# Altium integrated library Zilog Peripheral Multifunction Controller.IntLib: 18 symbols
Pins are listed as number, name and electrical type; pins without a type are passive.

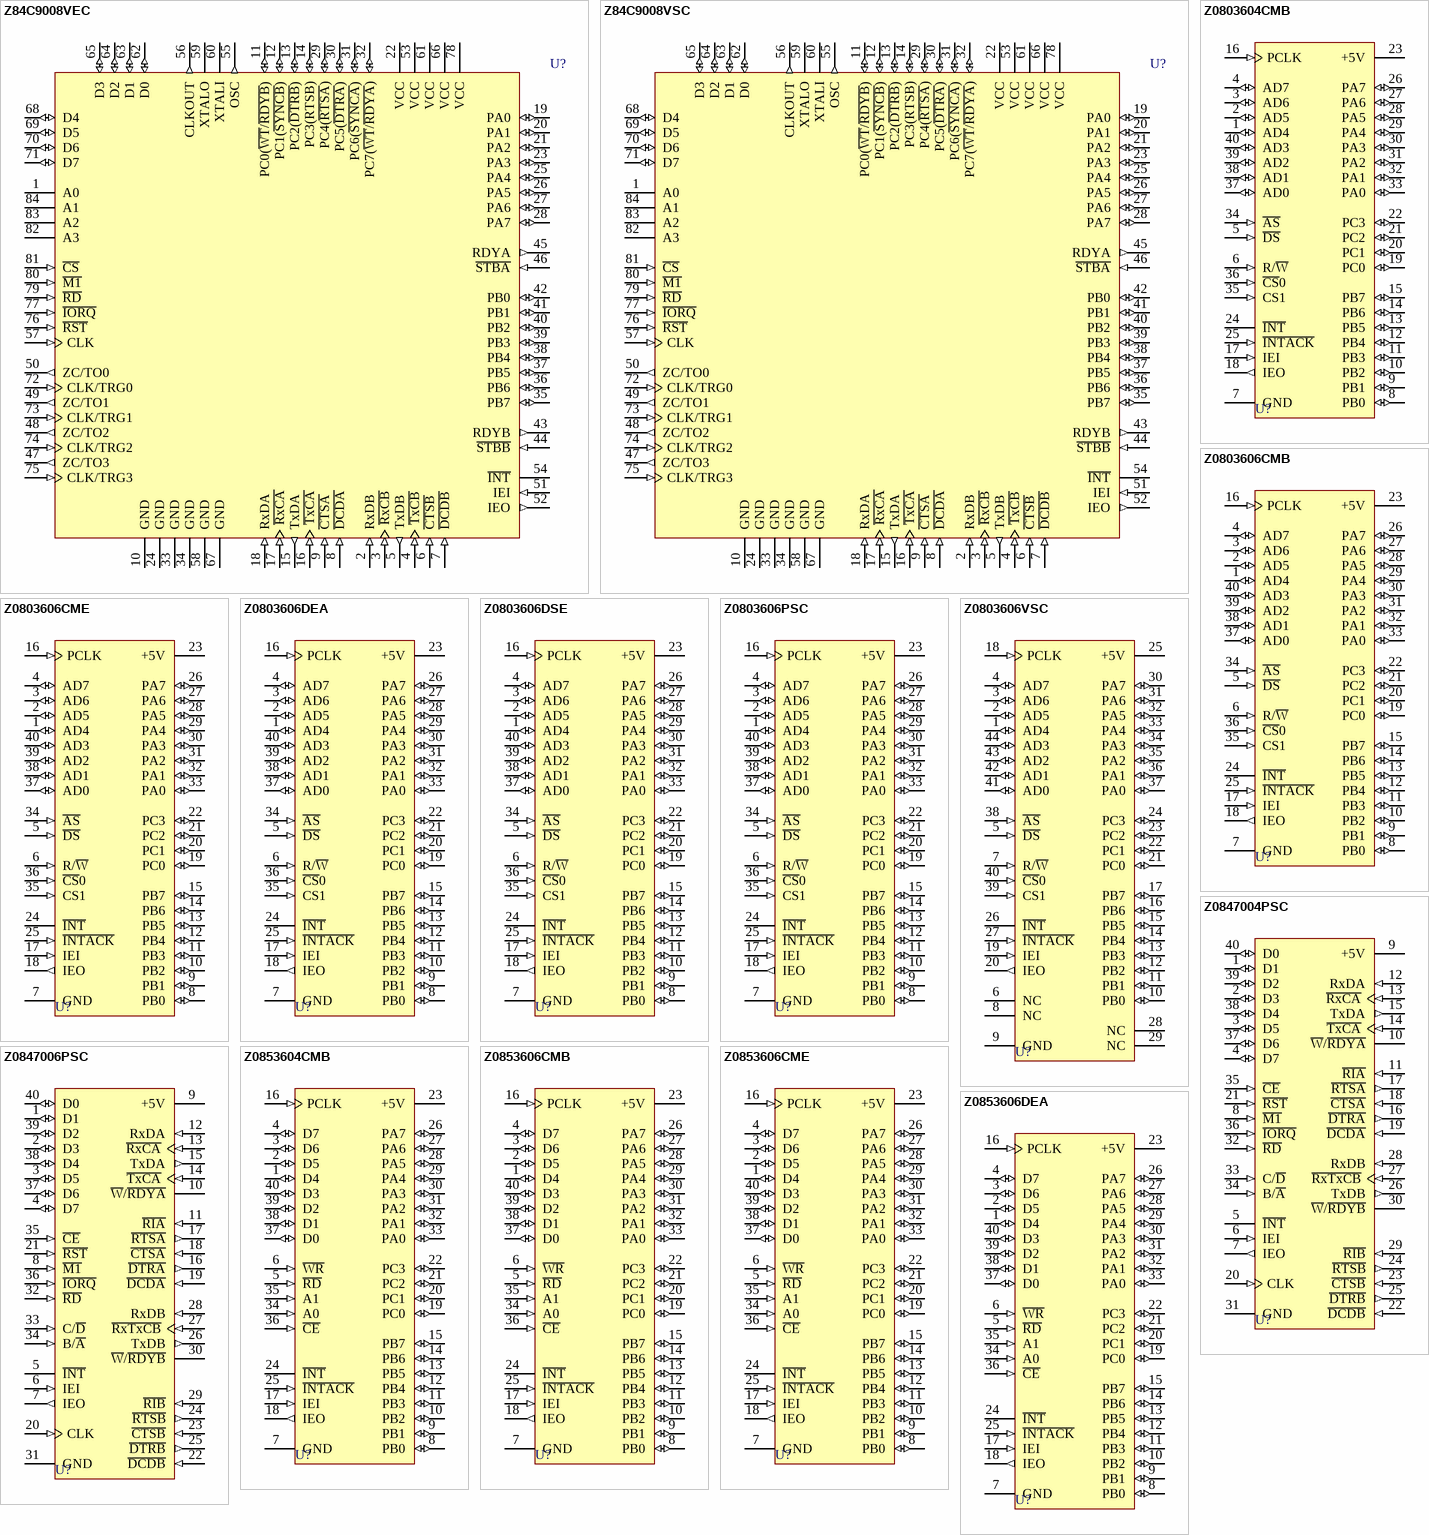
[diagram p0: symbols Z84C9008VEC to Z0853606DEA]

## Z84C9008VEC
designator U?
CMOS Serial/Parallel/Counter/Timer; Published: 15-Apr-2002; LatestRevisionDate: 13-Apr-2006; LatestRevisionNote: IPC-7351 Footprint Added.; DatasheetVersion: Jan-1989; PackageReference: PLCC84; Publisher: Altium Limited; PackageDescription: 84-Pin Leaded Chip Carrier 1.27 mm Pitch; Code_IPC: PLCC-84; ComponentLink1Description: Manufacturer Link; ComponentLink1URL: http://www.zilog.com/; ComponentLink2Description: Datasheet; ComponentLink2URL: http://www.zilog.com/docs/z80/um0081.pdf
footprint PLCC84_N (Leaded Chip Carrier, 84-Leads, Body 29.3x29.3mm, Pitch 1.27mm, IPC Medium Density)
footprint PLCC84_L (Leaded Chip Carrier, 84-Leads, Body 29.3x29.3mm, Pitch 1.27mm, IPC High Density)
footprint PLCC84_M (Leaded Chip Carrier, 84-Leads, Body 29.3x29.3mm, Pitch 1.27mm, IPC Low Density)
3D model Z84C90-PLCC84 (84-Pin Leaded Chip Carrier 1.27 mm Pitch)
pins: 1 A0 (hiz), 2 RxDB (in), 3 ~{RxCB} (in), 4 ~{TxCB} (in), 5 TxDB (out), 6 ~{CTSB} (in), 7 ~{DCDB} (in), 8 ~{DCDA} (in), 9 ~{CTSA} (in), 10 GND (power), 11 PC0(~{WT}/~{RDYB}) (io), 12 PC1(~{SYNCB}) (io), 13 PC2(~{DTRB}) (io), 14 PC3(RTSB) (io), 15 TxDA (out), 16 ~{TxCA} (in), 17 ~{RxCA} (in), 18 RxDA (in), 19 PA0 (io), 20 PA1 (io), 21 PA2 (io), 22 VCC (power), 23 PA3 (io), 24 GND (power), 25 PA4 (io), 26 PA5 (io), 27 PA6 (io), 28 PA7 (io), 29 PC4(~{RTSA}) (io), 30 PC5(~{DTRA}) (io), 31 PC6(~{SYNCA}) (io), 32 PC7(~{WT}/~{RDYA}) (io), 33 GND (power), 34 GND (power), 35 PB7 (io), 36 PB6 (io), 37 PB5 (io), 38 PB4 (io), 39 PB3 (io), 40 PB2 (io), 41 PB1 (io), 42 PB0 (io), 43 RDYB (out), 44 ~{STBB} (in), 45 RDYA (out), 46 ~{STBA} (in), 47 ZC/TO3 (out), 48 ZC/TO2 (out), 49 ZC/TO1 (out), 50 ZC/TO0 (out), 51 IEI (in), 52 IEO (out), 53 VCC (power), 54 ~{INT} (oc), 55 OSC (out), 56 CLKOUT (out), 57 CLK (in), 58 GND (power), 59 XTALO, 60 XTALI, 61 VCC (power), 62 D0 (io), 63 D1 (io), 64 D2 (io), 65 D3 (io), 66 VCC (power), 67 GND (power), 68 D4 (io), 69 D5 (io), 70 D6 (io), 71 D7 (io), 72 CLK/TRG0 (in), 73 CLK/TRG1 (in), 74 CLK/TRG2 (in), 75 CLK/TRG3 (in), 76 ~{RST} (in), 77 ~{IORQ} (in), 78 VCC (power), 79 ~{RD} (in), 80 ~{M1} (in), 81 ~{CS} (in), 82 A3 (hiz), 83 A2 (hiz), 84 A1 (hiz)

## Z84C9008VSC
designator U?
CMOS Serial/Parallel/Counter/Timer; Published: 15-Apr-2002; LatestRevisionDate: 13-Apr-2006; LatestRevisionNote: IPC-7351 Footprint Added.; DatasheetVersion: Jan-1989; PackageReference: PLCC84; Publisher: Altium Limited; PackageDescription: 84-Pin Leaded Chip Carrier 1.27 mm Pitch; Code_IPC: PLCC-84; ComponentLink1Description: Manufacturer Link; ComponentLink1URL: http://www.zilog.com/; ComponentLink2Description: Datasheet; ComponentLink2URL: http://www.zilog.com/docs/z80/um0081.pdf
footprint PLCC84_N (Leaded Chip Carrier, 84-Leads, Body 29.3x29.3mm, Pitch 1.27mm, IPC Medium Density)
footprint PLCC84_L (Leaded Chip Carrier, 84-Leads, Body 29.3x29.3mm, Pitch 1.27mm, IPC High Density)
footprint PLCC84_M (Leaded Chip Carrier, 84-Leads, Body 29.3x29.3mm, Pitch 1.27mm, IPC Low Density)
3D model Z84C90-PLCC84 (84-Pin Leaded Chip Carrier 1.27 mm Pitch)
pins: 1 A0 (hiz), 2 RxDB (in), 3 ~{RxCB} (in), 4 ~{TxCB} (in), 5 TxDB (out), 6 ~{CTSB} (in), 7 ~{DCDB} (in), 8 ~{DCDA} (in), 9 ~{CTSA} (in), 10 GND (power), 11 PC0(~{WT}/~{RDYB}) (io), 12 PC1(~{SYNCB}) (io), 13 PC2(~{DTRB}) (io), 14 PC3(RTSB) (io), 15 TxDA (out), 16 ~{TxCA} (in), 17 ~{RxCA} (in), 18 RxDA (in), 19 PA0 (io), 20 PA1 (io), 21 PA2 (io), 22 VCC (power), 23 PA3 (io), 24 GND (power), 25 PA4 (io), 26 PA5 (io), 27 PA6 (io), 28 PA7 (io), 29 PC4(~{RTSA}) (io), 30 PC5(~{DTRA}) (io), 31 PC6(~{SYNCA}) (io), 32 PC7(~{WT}/~{RDYA}) (io), 33 GND (power), 34 GND (power), 35 PB7 (io), 36 PB6 (io), 37 PB5 (io), 38 PB4 (io), 39 PB3 (io), 40 PB2 (io), 41 PB1 (io), 42 PB0 (io), 43 RDYB (out), 44 ~{STBB} (in), 45 RDYA (out), 46 ~{STBA} (in), 47 ZC/TO3 (out), 48 ZC/TO2 (out), 49 ZC/TO1 (out), 50 ZC/TO0 (out), 51 IEI (in), 52 IEO (out), 53 VCC (power), 54 ~{INT} (oc), 55 OSC (out), 56 CLKOUT (out), 57 CLK (in), 58 GND (power), 59 XTALO, 60 XTALI, 61 VCC (power), 62 D0 (io), 63 D1 (io), 64 D2 (io), 65 D3 (io), 66 VCC (power), 67 GND (power), 68 D4 (io), 69 D5 (io), 70 D6 (io), 71 D7 (io), 72 CLK/TRG0 (in), 73 CLK/TRG1 (in), 74 CLK/TRG2 (in), 75 CLK/TRG3 (in), 76 ~{RST} (in), 77 ~{IORQ} (in), 78 VCC (power), 79 ~{RD} (in), 80 ~{M1} (in), 81 ~{CS} (in), 82 A3 (hiz), 83 A2 (hiz), 84 A1 (hiz)

## Z0803604CMB
designator U?
Counter/Timer and Parallel I/O Unit; Published: 15-Apr-2002; LatestRevisionDate: 04-Mar-2005; LatestRevisionNote: Stylized 3D Model Added.; DatasheetVersion: Oct-1988; PackageVersion: 2001; PackageReference: CDIP40; Publisher: Altium Limited; PackageDescription: DIP; 40 Leads; Row Spacing 15.24 mm; Pitch 2.54 mm; ComponentLink1Description: Manufacturer Link; ComponentLink1URL: http://www.zilog.com/
footprint CDIP40 (DIP; 40 Leads; Row Spacing 15.24 mm; Pitch 2.54 mm)
3D model CDIP40 (DIP; 40 Leads; Row Spacing 15.24 mm; Pitch 2.54 mm)
pins: 1 AD4 (io), 2 AD5 (io), 3 AD6 (io), 4 AD7 (io), 5 ~{DS} (in), 6 R/~{W} (in), 7 GND (power), 8 PB0 (io), 9 PB1 (io), 10 PB2 (io), 11 PB3 (io), 12 PB4 (io), 13 PB5 (io), 14 PB6 (io), 15 PB7 (io), 16 PCLK (in), 17 IEI (in), 18 IEO (out), 19 PC0 (io), 20 PC1 (io), 21 PC2 (io), 22 PC3 (io), 23 +5V (power), 24 ~{INT} (oc), 25 ~{INTACK} (in), 26 PA7 (io), 27 PA6 (io), 28 PA5 (io), 29 PA4 (io), 30 PA3 (io), 31 PA2 (io), 32 PA1 (io), 33 PA0 (io), 34 ~{AS} (in), 35 CS1 (in), 36 ~{CS}0 (in), 37 AD0 (io), 38 AD1 (io), 39 AD2 (io), 40 AD3 (io)

## Z0803606CMB
designator U?
Counter/Timer and Parallel I/O Unit; Published: 15-Apr-2002; LatestRevisionDate: 04-Mar-2005; LatestRevisionNote: Stylized 3D Model Added.; DatasheetVersion: Oct-1988; PackageVersion: 2001; PackageReference: CDIP40; Publisher: Altium Limited; PackageDescription: DIP; 40 Leads; Row Spacing 15.24 mm; Pitch 2.54 mm; ComponentLink1Description: Manufacturer Link; ComponentLink1URL: http://www.zilog.com/
footprint CDIP40 (DIP; 40 Leads; Row Spacing 15.24 mm; Pitch 2.54 mm)
3D model CDIP40 (DIP; 40 Leads; Row Spacing 15.24 mm; Pitch 2.54 mm)
pins: 1 AD4 (io), 2 AD5 (io), 3 AD6 (io), 4 AD7 (io), 5 ~{DS} (in), 6 R/~{W} (in), 7 GND (power), 8 PB0 (io), 9 PB1 (io), 10 PB2 (io), 11 PB3 (io), 12 PB4 (io), 13 PB5 (io), 14 PB6 (io), 15 PB7 (io), 16 PCLK (in), 17 IEI (in), 18 IEO (out), 19 PC0 (io), 20 PC1 (io), 21 PC2 (io), 22 PC3 (io), 23 +5V (power), 24 ~{INT} (oc), 25 ~{INTACK} (in), 26 PA7 (io), 27 PA6 (io), 28 PA5 (io), 29 PA4 (io), 30 PA3 (io), 31 PA2 (io), 32 PA1 (io), 33 PA0 (io), 34 ~{AS} (in), 35 CS1 (in), 36 ~{CS}0 (in), 37 AD0 (io), 38 AD1 (io), 39 AD2 (io), 40 AD3 (io)

## Z0803606CME
designator U?
Counter/Timer and Parallel I/O Unit; Published: 15-Apr-2002; LatestRevisionDate: 04-Mar-2005; LatestRevisionNote: Stylized 3D Model Added.; DatasheetVersion: Oct-1988; PackageVersion: 2001; PackageReference: CDIP40; Publisher: Altium Limited; PackageDescription: DIP; 40 Leads; Row Spacing 15.24 mm; Pitch 2.54 mm; ComponentLink1Description: Manufacturer Link; ComponentLink1URL: http://www.zilog.com/
footprint CDIP40 (DIP; 40 Leads; Row Spacing 15.24 mm; Pitch 2.54 mm)
3D model CDIP40 (DIP; 40 Leads; Row Spacing 15.24 mm; Pitch 2.54 mm)
pins: 1 AD4 (io), 2 AD5 (io), 3 AD6 (io), 4 AD7 (io), 5 ~{DS} (in), 6 R/~{W} (in), 7 GND (power), 8 PB0 (io), 9 PB1 (io), 10 PB2 (io), 11 PB3 (io), 12 PB4 (io), 13 PB5 (io), 14 PB6 (io), 15 PB7 (io), 16 PCLK (in), 17 IEI (in), 18 IEO (out), 19 PC0 (io), 20 PC1 (io), 21 PC2 (io), 22 PC3 (io), 23 +5V (power), 24 ~{INT} (oc), 25 ~{INTACK} (in), 26 PA7 (io), 27 PA6 (io), 28 PA5 (io), 29 PA4 (io), 30 PA3 (io), 31 PA2 (io), 32 PA1 (io), 33 PA0 (io), 34 ~{AS} (in), 35 CS1 (in), 36 ~{CS}0 (in), 37 AD0 (io), 38 AD1 (io), 39 AD2 (io), 40 AD3 (io)

## Z0803606DEA
designator U?
Counter/Timer and Parallel I/O Unit; Published: 15-Apr-2002; LatestRevisionDate: 04-Mar-2005; LatestRevisionNote: Stylized 3D Model Added.; DatasheetVersion: Oct-1988; PackageVersion: 1999; PackageReference: CerDIP40; Publisher: Altium Limited; PackageDescription: DIP; 40 Leads; Row Spacing 15.24 mm; Pitch 2.54 mm; ComponentLink1Description: Manufacturer Link; ComponentLink1URL: http://www.zilog.com/
footprint CerDIP40 (DIP; 40 Leads; Row Spacing 15.24 mm; Pitch 2.54 mm)
3D model PDIP40 (DIP; 40 Leads; Row Spacing 15.24 mm; Pitch 2.54 mm)
pins: 1 AD4 (io), 2 AD5 (io), 3 AD6 (io), 4 AD7 (io), 5 ~{DS} (in), 6 R/~{W} (in), 7 GND (power), 8 PB0 (io), 9 PB1 (io), 10 PB2 (io), 11 PB3 (io), 12 PB4 (io), 13 PB5 (io), 14 PB6 (io), 15 PB7 (io), 16 PCLK (in), 17 IEI (in), 18 IEO (out), 19 PC0 (io), 20 PC1 (io), 21 PC2 (io), 22 PC3 (io), 23 +5V (power), 24 ~{INT} (oc), 25 ~{INTACK} (in), 26 PA7 (io), 27 PA6 (io), 28 PA5 (io), 29 PA4 (io), 30 PA3 (io), 31 PA2 (io), 32 PA1 (io), 33 PA0 (io), 34 ~{AS} (in), 35 CS1 (in), 36 ~{CS}0 (in), 37 AD0 (io), 38 AD1 (io), 39 AD2 (io), 40 AD3 (io)

## Z0803606DSE
designator U?
Counter/Timer and Parallel I/O Unit; Published: 15-Apr-2002; LatestRevisionDate: 04-Mar-2005; LatestRevisionNote: Stylized 3D Model Added.; DatasheetVersion: Oct-1988; PackageVersion: 1999; PackageReference: CerDIP40; Publisher: Altium Limited; PackageDescription: DIP; 40 Leads; Row Spacing 15.24 mm; Pitch 2.54 mm; ComponentLink1Description: Manufacturer Link; ComponentLink1URL: http://www.zilog.com/
footprint CerDIP40 (DIP; 40 Leads; Row Spacing 15.24 mm; Pitch 2.54 mm)
3D model PDIP40 (DIP; 40 Leads; Row Spacing 15.24 mm; Pitch 2.54 mm)
pins: 1 AD4 (io), 2 AD5 (io), 3 AD6 (io), 4 AD7 (io), 5 ~{DS} (in), 6 R/~{W} (in), 7 GND (power), 8 PB0 (io), 9 PB1 (io), 10 PB2 (io), 11 PB3 (io), 12 PB4 (io), 13 PB5 (io), 14 PB6 (io), 15 PB7 (io), 16 PCLK (in), 17 IEI (in), 18 IEO (out), 19 PC0 (io), 20 PC1 (io), 21 PC2 (io), 22 PC3 (io), 23 +5V (power), 24 ~{INT} (oc), 25 ~{INTACK} (in), 26 PA7 (io), 27 PA6 (io), 28 PA5 (io), 29 PA4 (io), 30 PA3 (io), 31 PA2 (io), 32 PA1 (io), 33 PA0 (io), 34 ~{AS} (in), 35 CS1 (in), 36 ~{CS}0 (in), 37 AD0 (io), 38 AD1 (io), 39 AD2 (io), 40 AD3 (io)

## Z0803606PSC
designator U?
Counter/Timer and Parallel I/O Unit; Published: 15-Apr-2002; LatestRevisionDate: 04-Mar-2005; LatestRevisionNote: Stylized 3D Model Added.; DatasheetVersion: Oct-1988; PackageVersion: Jun-1999; PackageReference: PDIP40; Publisher: Altium Limited; PackageDescription: DIP; 40 Leads; Row Spacing 15.24 mm; Pitch 2.54 mm; ComponentLink1Description: Manufacturer Link; ComponentLink1URL: http://www.zilog.com/
footprint PDIP40 (DIP; 40 Leads; Row Spacing 15.24 mm; Pitch 2.54 mm)
3D model PDIP40 (DIP; 40 Leads; Row Spacing 15.24 mm; Pitch 2.54 mm)
pins: 1 AD4 (io), 2 AD5 (io), 3 AD6 (io), 4 AD7 (io), 5 ~{DS} (in), 6 R/~{W} (in), 7 GND (power), 8 PB0 (io), 9 PB1 (io), 10 PB2 (io), 11 PB3 (io), 12 PB4 (io), 13 PB5 (io), 14 PB6 (io), 15 PB7 (io), 16 PCLK (in), 17 IEI (in), 18 IEO (out), 19 PC0 (io), 20 PC1 (io), 21 PC2 (io), 22 PC3 (io), 23 +5V (power), 24 ~{INT} (oc), 25 ~{INTACK} (in), 26 PA7 (io), 27 PA6 (io), 28 PA5 (io), 29 PA4 (io), 30 PA3 (io), 31 PA2 (io), 32 PA1 (io), 33 PA0 (io), 34 ~{AS} (in), 35 CS1 (in), 36 ~{CS}0 (in), 37 AD0 (io), 38 AD1 (io), 39 AD2 (io), 40 AD3 (io)

## Z0803606VSC
designator U?
Counter/Timer and Parallel I/O Unit; Published: 15-Apr-2002; LatestRevisionDate: 13-Apr-2006; LatestRevisionNote: IPC-7351 Footprint Added.; DatasheetVersion: Oct-1988; PackageReference: PCC44; Publisher: Altium Limited; PackageDescription: 44-Pin Leaded Chip Carrier 1.27 mm Pitch; Code_IPC: PLCC-44; ComponentLink1Description: Manufacturer Link; ComponentLink1URL: http://www.zilog.com/
footprint PCC44_N (Leaded Chip Carrier, 44-Leads, Body 16.6x16.6mm, Pitch 1.27mm, IPC Medium Density)
footprint PCC44_L (Leaded Chip Carrier, 44-Leads, Body 16.6x16.6mm, Pitch 1.27mm, IPC High Density)
footprint PCC44_M (Leaded Chip Carrier, 44-Leads, Body 16.6x16.6mm, Pitch 1.27mm, IPC Low Density)
3D model Z08036-PCC44 (44-Pin Leaded Chip Carrier 1.27 mm Pitch)
pins: 1 AD4 (io), 2 AD5 (io), 3 AD6 (io), 4 AD7 (io), 5 ~{DS} (in), 6 NC, 7 R/~{W} (in), 8 NC, 9 GND (power), 10 PB0 (io), 11 PB1 (io), 12 PB2 (io), 13 PB3 (io), 14 PB4 (io), 15 PB5 (io), 16 PB6 (io), 17 PB7 (io), 18 PCLK (in), 19 IEI (in), 20 IEO (out), 21 PC0 (io), 22 PC1 (io), 23 PC2 (io), 24 PC3 (io), 25 +5V (power), 26 ~{INT} (oc), 27 ~{INTACK} (in), 28 NC, 29 NC, 30 PA7 (io), 31 PA6 (io), 32 PA5 (io), 33 PA4 (io), 34 PA3 (io), 35 PA2 (io), 36 PA1 (io), 37 PA0 (io), 38 ~{AS} (in), 39 CS1 (in), 40 ~{CS}0 (in), 41 AD0 (io), 42 AD1 (io), 43 AD2 (io), 44 AD3 (io)

## Z0847004PSC
designator U?
Dual-Channel Asynchronous Receiver/Transmitter; Published: 15-Apr-2002; LatestRevisionDate: 04-Mar-2005; LatestRevisionNote: Stylized 3D Model Added.; DatasheetVersion: Jan-1989; PackageVersion: Jun-1999; PackageReference: PDIP40; Publisher: Altium Limited; PackageDescription: DIP; 40 Leads; Row Spacing 15.24 mm; Pitch 2.54 mm; ComponentLink1Description: Manufacturer Link; ComponentLink1URL: http://www.zilog.com/
footprint PDIP40 (DIP; 40 Leads; Row Spacing 15.24 mm; Pitch 2.54 mm)
3D model PDIP40 (DIP; 40 Leads; Row Spacing 15.24 mm; Pitch 2.54 mm)
pins: 1 D1 (io), 2 D3 (io), 3 D5 (io), 4 D7 (io), 5 ~{INT} (oc), 6 IEI (in), 7 IEO (out), 8 ~{M1} (in), 9 +5V (power), 10 ~{W}/~{RDYA} (oc), 11 ~{RIA} (in), 12 RxDA (in), 13 ~{RxCA} (in), 14 ~{TxCA} (in), 15 TxDA (out), 16 ~{DTRA} (out), 17 ~{RTSA} (out), 18 ~{CTSA} (in), 19 ~{DCDA} (in), 20 CLK (in), 21 ~{RST} (in), 22 ~{DCDB} (in), 23 ~{CTSB} (in), 24 ~{RTSB} (out), 25 ~{DTRB} (out), 26 TxDB (out), 27 ~{RxTxCB} (in), 28 RxDB (in), 29 ~{RIB} (in), 30 ~{W}/~{RDYB} (oc), 31 GND (power), 32 ~{RD} (in), 33 C/~{D} (in), 34 B/~{A} (in), 35 ~{CE} (in), 36 ~{IORQ} (in), 37 D6 (io), 38 D4 (io), 39 D2 (io), 40 D0 (io)

## Z0847006PSC
designator U?
Dual-Channel Asynchronous Receiver/Transmitter; Published: 15-Apr-2002; LatestRevisionDate: 04-Mar-2005; LatestRevisionNote: Stylized 3D Model Added.; DatasheetVersion: Jan-1989; PackageVersion: Jun-1999; PackageReference: PDIP40; Publisher: Altium Limited; PackageDescription: DIP; 40 Leads; Row Spacing 15.24 mm; Pitch 2.54 mm; ComponentLink1Description: Manufacturer Link; ComponentLink1URL: http://www.zilog.com/
footprint PDIP40 (DIP; 40 Leads; Row Spacing 15.24 mm; Pitch 2.54 mm)
3D model PDIP40 (DIP; 40 Leads; Row Spacing 15.24 mm; Pitch 2.54 mm)
pins: 1 D1 (io), 2 D3 (io), 3 D5 (io), 4 D7 (io), 5 ~{INT} (oc), 6 IEI (in), 7 IEO (out), 8 ~{M1} (in), 9 +5V (power), 10 ~{W}/~{RDYA} (oc), 11 ~{RIA} (in), 12 RxDA (in), 13 ~{RxCA} (in), 14 ~{TxCA} (in), 15 TxDA (out), 16 ~{DTRA} (out), 17 ~{RTSA} (out), 18 ~{CTSA} (in), 19 ~{DCDA} (in), 20 CLK (in), 21 ~{RST} (in), 22 ~{DCDB} (in), 23 ~{CTSB} (in), 24 ~{RTSB} (out), 25 ~{DTRB} (out), 26 TxDB (out), 27 ~{RxTxCB} (in), 28 RxDB (in), 29 ~{RIB} (in), 30 ~{W}/~{RDYB} (oc), 31 GND (power), 32 ~{RD} (in), 33 C/~{D} (in), 34 B/~{A} (in), 35 ~{CE} (in), 36 ~{IORQ} (in), 37 D6 (io), 38 D4 (io), 39 D2 (io), 40 D0 (io)

## Z0853604CMB
designator U?
Counter/Timer and Parallel I/O Unit; Published: 15-Apr-2002; LatestRevisionDate: 04-Mar-2005; LatestRevisionNote: Stylized 3D Model Added.; DatasheetVersion: Oct-1988; PackageVersion: 2001; PackageReference: CDIP40; Publisher: Altium Limited; PackageDescription: DIP; 40 Leads; Row Spacing 15.24 mm; Pitch 2.54 mm; ComponentLink1Description: Manufacturer Link; ComponentLink1URL: http://www.zilog.com/
footprint CDIP40 (DIP; 40 Leads; Row Spacing 15.24 mm; Pitch 2.54 mm)
3D model CDIP40 (DIP; 40 Leads; Row Spacing 15.24 mm; Pitch 2.54 mm)
pins: 1 D4 (io), 2 D5 (io), 3 D6 (io), 4 D7 (io), 5 ~{RD} (in), 6 ~{WR} (in), 7 GND (power), 8 PB0 (io), 9 PB1 (io), 10 PB2 (io), 11 PB3 (io), 12 PB4 (io), 13 PB5 (io), 14 PB6 (io), 15 PB7 (io), 16 PCLK (in), 17 IEI (in), 18 IEO (out), 19 PC0 (io), 20 PC1 (io), 21 PC2 (io), 22 PC3 (io), 23 +5V (power), 24 ~{INT} (oc), 25 ~{INTACK} (in), 26 PA7 (io), 27 PA6 (io), 28 PA5 (io), 29 PA4 (io), 30 PA3 (io), 31 PA2 (io), 32 PA1 (io), 33 PA0 (io), 34 A0 (in), 35 A1 (in), 36 ~{CE} (in), 37 D0 (io), 38 D1 (io), 39 D2 (io), 40 D3 (io)

## Z0853606CMB
designator U?
Counter/Timer and Parallel I/O Unit; Published: 15-Apr-2002; LatestRevisionDate: 04-Mar-2005; LatestRevisionNote: Stylized 3D Model Added.; DatasheetVersion: Oct-1988; PackageVersion: 2001; PackageReference: CDIP40; Publisher: Altium Limited; PackageDescription: DIP; 40 Leads; Row Spacing 15.24 mm; Pitch 2.54 mm; ComponentLink1Description: Manufacturer Link; ComponentLink1URL: http://www.zilog.com/
footprint CDIP40 (DIP; 40 Leads; Row Spacing 15.24 mm; Pitch 2.54 mm)
3D model CDIP40 (DIP; 40 Leads; Row Spacing 15.24 mm; Pitch 2.54 mm)
pins: 1 D4 (io), 2 D5 (io), 3 D6 (io), 4 D7 (io), 5 ~{RD} (in), 6 ~{WR} (in), 7 GND (power), 8 PB0 (io), 9 PB1 (io), 10 PB2 (io), 11 PB3 (io), 12 PB4 (io), 13 PB5 (io), 14 PB6 (io), 15 PB7 (io), 16 PCLK (in), 17 IEI (in), 18 IEO (out), 19 PC0 (io), 20 PC1 (io), 21 PC2 (io), 22 PC3 (io), 23 +5V (power), 24 ~{INT} (oc), 25 ~{INTACK} (in), 26 PA7 (io), 27 PA6 (io), 28 PA5 (io), 29 PA4 (io), 30 PA3 (io), 31 PA2 (io), 32 PA1 (io), 33 PA0 (io), 34 A0 (in), 35 A1 (in), 36 ~{CE} (in), 37 D0 (io), 38 D1 (io), 39 D2 (io), 40 D3 (io)

## Z0853606CME
designator U?
Counter/Timer and Parallel I/O Unit; Published: 15-Apr-2002; LatestRevisionDate: 04-Mar-2005; LatestRevisionNote: Stylized 3D Model Added.; DatasheetVersion: Oct-1988; PackageVersion: 2001; PackageReference: CDIP40; Publisher: Altium Limited; PackageDescription: DIP; 40 Leads; Row Spacing 15.24 mm; Pitch 2.54 mm; ComponentLink1Description: Manufacturer Link; ComponentLink1URL: http://www.zilog.com/
footprint CDIP40 (DIP; 40 Leads; Row Spacing 15.24 mm; Pitch 2.54 mm)
3D model CDIP40 (DIP; 40 Leads; Row Spacing 15.24 mm; Pitch 2.54 mm)
pins: 1 D4 (io), 2 D5 (io), 3 D6 (io), 4 D7 (io), 5 ~{RD} (in), 6 ~{WR} (in), 7 GND (power), 8 PB0 (io), 9 PB1 (io), 10 PB2 (io), 11 PB3 (io), 12 PB4 (io), 13 PB5 (io), 14 PB6 (io), 15 PB7 (io), 16 PCLK (in), 17 IEI (in), 18 IEO (out), 19 PC0 (io), 20 PC1 (io), 21 PC2 (io), 22 PC3 (io), 23 +5V (power), 24 ~{INT} (oc), 25 ~{INTACK} (in), 26 PA7 (io), 27 PA6 (io), 28 PA5 (io), 29 PA4 (io), 30 PA3 (io), 31 PA2 (io), 32 PA1 (io), 33 PA0 (io), 34 A0 (in), 35 A1 (in), 36 ~{CE} (in), 37 D0 (io), 38 D1 (io), 39 D2 (io), 40 D3 (io)

## Z0853606DEA
designator U?
Counter/Timer and Parallel I/O Unit; Published: 15-Apr-2002; LatestRevisionDate: 04-Mar-2005; LatestRevisionNote: Stylized 3D Model Added.; DatasheetVersion: Oct-1988; PackageVersion: 1999; PackageReference: CerDIP40; Publisher: Altium Limited; PackageDescription: DIP; 40 Leads; Row Spacing 15.24 mm; Pitch 2.54 mm; ComponentLink1Description: Manufacturer Link; ComponentLink1URL: http://www.zilog.com/
footprint CerDIP40 (DIP; 40 Leads; Row Spacing 15.24 mm; Pitch 2.54 mm)
3D model PDIP40 (DIP; 40 Leads; Row Spacing 15.24 mm; Pitch 2.54 mm)
pins: 1 D4 (io), 2 D5 (io), 3 D6 (io), 4 D7 (io), 5 ~{RD} (in), 6 ~{WR} (in), 7 GND (power), 8 PB0 (io), 9 PB1 (io), 10 PB2 (io), 11 PB3 (io), 12 PB4 (io), 13 PB5 (io), 14 PB6 (io), 15 PB7 (io), 16 PCLK (in), 17 IEI (in), 18 IEO (out), 19 PC0 (io), 20 PC1 (io), 21 PC2 (io), 22 PC3 (io), 23 +5V (power), 24 ~{INT} (oc), 25 ~{INTACK} (in), 26 PA7 (io), 27 PA6 (io), 28 PA5 (io), 29 PA4 (io), 30 PA3 (io), 31 PA2 (io), 32 PA1 (io), 33 PA0 (io), 34 A0 (in), 35 A1 (in), 36 ~{CE} (in), 37 D0 (io), 38 D1 (io), 39 D2 (io), 40 D3 (io)

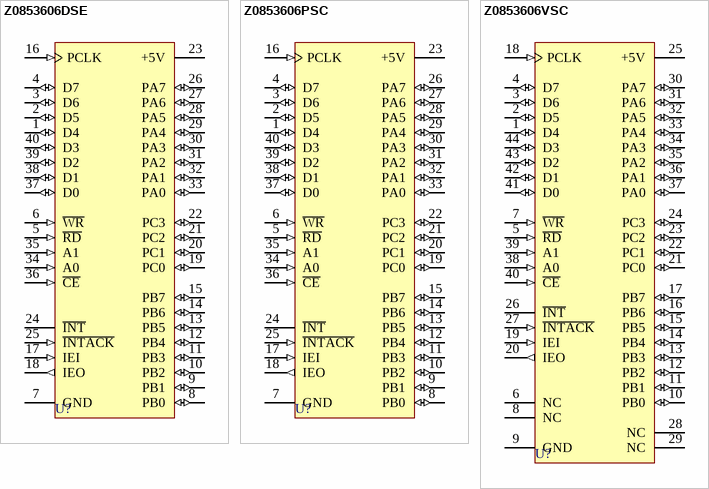
[diagram p1: symbols Z0853606DSE to Z0853606VSC]

## Z0853606DSE
designator U?
Counter/Timer and Parallel I/O Unit; Published: 15-Apr-2002; LatestRevisionDate: 04-Mar-2005; LatestRevisionNote: Stylized 3D Model Added.; DatasheetVersion: Oct-1988; PackageVersion: 1999; PackageReference: CerDIP40; Publisher: Altium Limited; PackageDescription: DIP; 40 Leads; Row Spacing 15.24 mm; Pitch 2.54 mm; ComponentLink1Description: Manufacturer Link; ComponentLink1URL: http://www.zilog.com/
footprint CerDIP40 (DIP; 40 Leads; Row Spacing 15.24 mm; Pitch 2.54 mm)
3D model PDIP40 (DIP; 40 Leads; Row Spacing 15.24 mm; Pitch 2.54 mm)
pins: 1 D4 (io), 2 D5 (io), 3 D6 (io), 4 D7 (io), 5 ~{RD} (in), 6 ~{WR} (in), 7 GND (power), 8 PB0 (io), 9 PB1 (io), 10 PB2 (io), 11 PB3 (io), 12 PB4 (io), 13 PB5 (io), 14 PB6 (io), 15 PB7 (io), 16 PCLK (in), 17 IEI (in), 18 IEO (out), 19 PC0 (io), 20 PC1 (io), 21 PC2 (io), 22 PC3 (io), 23 +5V (power), 24 ~{INT} (oc), 25 ~{INTACK} (in), 26 PA7 (io), 27 PA6 (io), 28 PA5 (io), 29 PA4 (io), 30 PA3 (io), 31 PA2 (io), 32 PA1 (io), 33 PA0 (io), 34 A0 (in), 35 A1 (in), 36 ~{CE} (in), 37 D0 (io), 38 D1 (io), 39 D2 (io), 40 D3 (io)

## Z0853606PSC
designator U?
Counter/Timer and Parallel I/O Unit; Published: 15-Apr-2002; LatestRevisionDate: 04-Mar-2005; LatestRevisionNote: Stylized 3D Model Added.; DatasheetVersion: Oct-1988; PackageVersion: Jun-1999; PackageReference: PDIP40; Publisher: Altium Limited; PackageDescription: DIP; 40 Leads; Row Spacing 15.24 mm; Pitch 2.54 mm; ComponentLink1Description: Manufacturer Link; ComponentLink1URL: http://www.zilog.com/
footprint PDIP40 (DIP; 40 Leads; Row Spacing 15.24 mm; Pitch 2.54 mm)
3D model PDIP40 (DIP; 40 Leads; Row Spacing 15.24 mm; Pitch 2.54 mm)
pins: 1 D4 (io), 2 D5 (io), 3 D6 (io), 4 D7 (io), 5 ~{RD} (in), 6 ~{WR} (in), 7 GND (power), 8 PB0 (io), 9 PB1 (io), 10 PB2 (io), 11 PB3 (io), 12 PB4 (io), 13 PB5 (io), 14 PB6 (io), 15 PB7 (io), 16 PCLK (in), 17 IEI (in), 18 IEO (out), 19 PC0 (io), 20 PC1 (io), 21 PC2 (io), 22 PC3 (io), 23 +5V (power), 24 ~{INT} (oc), 25 ~{INTACK} (in), 26 PA7 (io), 27 PA6 (io), 28 PA5 (io), 29 PA4 (io), 30 PA3 (io), 31 PA2 (io), 32 PA1 (io), 33 PA0 (io), 34 A0 (in), 35 A1 (in), 36 ~{CE} (in), 37 D0 (io), 38 D1 (io), 39 D2 (io), 40 D3 (io)

## Z0853606VSC
designator U?
Counter/Timer and Parallel I/O Unit; Published: 15-Apr-2002; LatestRevisionDate: 13-Apr-2006; LatestRevisionNote: IPC-7351 Footprint Added.; DatasheetVersion: Oct-1988; PackageReference: PCC44; Publisher: Altium Limited; PackageDescription: 44-Pin Leaded Chip Carrier 1.27 mm Pitch; Code_IPC: PLCC-44; ComponentLink1Description: Manufacturer Link; ComponentLink1URL: http://www.zilog.com/
footprint PCC44_N (Leaded Chip Carrier, 44-Leads, Body 16.6x16.6mm, Pitch 1.27mm, IPC Medium Density)
footprint PCC44_L (Leaded Chip Carrier, 44-Leads, Body 16.6x16.6mm, Pitch 1.27mm, IPC High Density)
footprint PCC44_M (Leaded Chip Carrier, 44-Leads, Body 16.6x16.6mm, Pitch 1.27mm, IPC Low Density)
3D model Z08536-PCC44 (44-Pin Leaded Chip Carrier 1.27 mm Pitch)
pins: 1 D4 (io), 2 D5 (io), 3 D6 (io), 4 D7 (io), 5 ~{RD} (in), 6 NC, 7 ~{WR} (in), 8 NC, 9 GND (power), 10 PB0 (io), 11 PB1 (io), 12 PB2 (io), 13 PB3 (io), 14 PB4 (io), 15 PB5 (io), 16 PB6 (io), 17 PB7 (io), 18 PCLK (in), 19 IEI (in), 20 IEO (out), 21 PC0 (io), 22 PC1 (io), 23 PC2 (io), 24 PC3 (io), 25 +5V (power), 26 ~{INT} (oc), 27 ~{INTACK} (in), 28 NC, 29 NC, 30 PA7 (io), 31 PA6 (io), 32 PA5 (io), 33 PA4 (io), 34 PA3 (io), 35 PA2 (io), 36 PA1 (io), 37 PA0 (io), 38 A0 (in), 39 A1 (in), 40 ~{CE} (in), 41 D0 (io), 42 D1 (io), 43 D2 (io), 44 D3 (io)